# Altium footprint library MLACHQ_S.PCBLIB: 155 footprints (part 10 of 10)
Each footprint in its own frame and in the unit in brackets; x right, y up, seen from the top. Pads: shape width x height; smd on the part's side, far side on the other; paste and mask are expansions set on the pad; w line width, h text height; cw(c..) or ccw(c..) is an arc to the next point about the centre after c.
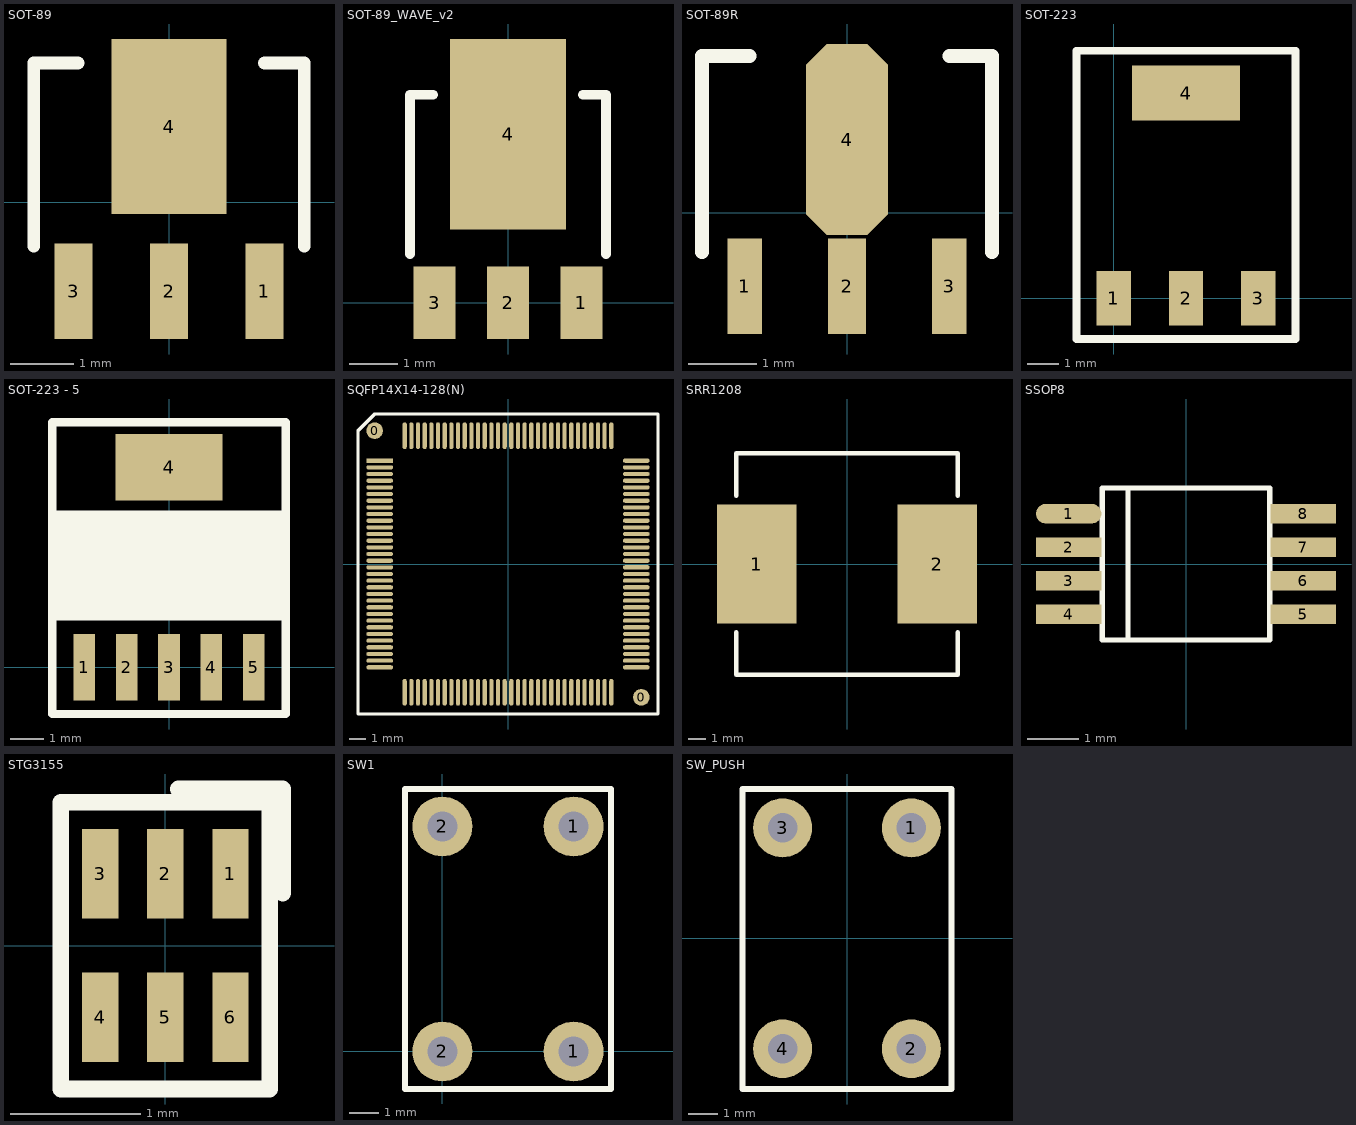
[diagram p9: the footprints below, top view; thin cyan lines are the x and y axes]

## SOT-89 [mm]
pads (4):
  rect 0.6x1.5 smd mask+0.3: 1(1.5,-1.4) 2(0,-1.4) 3(-1.5,-1.4)
  rect 1.8x2.75 smd mask+0.3: 4(0,1.188)
TopOverlay:
  lines w0.203: -2.125,-0.688 -2.125,2.187 -1.431,2.187 ; 1.5,2.187 2.125,2.187 2.125,-0.688
3D body: height 0.4, standoff 0, extent -0.9,1.2 0.9,2
3D body: height 0.4, standoff 0, extent 1.3,-2 1.7,-1.2
3D body: height 0.4, standoff 0, extent -0.2,-2 0.2,-1.2
3D body: height 0.4, standoff 0, extent -1.7,-2 -1.3,-1.2
3D body: height 1.6, standoff 0, extent -2.3,-1.2 2.3,1.2

## SOT-89_WAVE_v2 [mm]
pads (4):
  rect 0.864x1.5 smd: 1(1.524,0) 2(0,0) 3(-1.524,0)
  rect 2.4x3.95 smd mask+0.3: 4(0,3.5)
TopOverlay:
  lines w0.203: -2.032,1.016 -2.032,4.318 -1.55,4.318 ; 1.55,4.318 2.032,4.318 2.032,1.016
3D body: height 1.5, standoff 0.5, extent -2,0.25 2,3.65

## SOT-89R [mm]
pads (4):
  rect 0.5x1.4 smd mask+0.203: 1(-1.5,-1.075) 3(1.5,-1.075)
  rect 0.56x1.4 smd mask+0.203: 2(0,-1.075)
  oct 1.2x2.8 smd mask+0.203: 4(0,1.075)
TopOverlay:
  lines w0.203: -2.125,-0.575 -2.125,2.3 -1.431,2.3 ; 1.5,2.3 2.125,2.3 2.125,-0.575
3D body: height 0.4, standoff 0, extent -0.9,1.55 0.9,2.35
3D body: height 0.4, standoff 0, extent 1.3,-1.65 1.7,-0.85
3D body: height 0.4, standoff 0, extent -0.2,-1.65 0.2,-0.85
3D body: height 0.4, standoff 0, extent -1.7,-1.65 -1.3,-0.85
3D body: height 1.6, standoff 0, extent -2.3,-0.85 2.3,1.55

## SOT-223 [mm]
pads (4):
  rect 1.1x1.75 smd: 1(0,0) 2(2.3,0) 3(4.6,0)
  rect 3.45x1.75 smd: 4(2.3,6.55)
TopOverlay:
  lines w0.25: -1.2,-1.3 -1.2,7.9 5.8,7.9 5.8,-1.3 -1.2,-1.3
3D body: height 1.6, standoff 0, extent -1,1.475 5.6,5.075
3D body: height 0.8, standoff 0, extent 1.9,-0.225 2.7,1.475
3D body: height 0.8, standoff 0, extent -0.4,-0.225 0.4,1.475
3D body: height 0.8, standoff 0, extent 4.2,-0.225 5,1.475
3D body: height 0.8, standoff 0, extent 0.8,5.075 3.8,6.775

## SOT-223 - 5 [mm]
pads (6):
  rect 0.65x2 smd: 1(-2.54,0) 2(-1.27,0) 3(0,0) 4(1.27,0) 5(2.54,0)
  rect 3.2x2 smd: 4(0,6)
TopOverlay:
  rectangle: -3.5,1.4 3.5,4.7
  lines w0.25: -3.5,-1.4 -3.5,7.35 3.5,7.35 3.5,-1.4 -3.5,-1.4
3D body: height 0.8, standoff 0, extent 2.24,-0.225 2.84,1.475
3D body: height 0.8, standoff 0, extent 0.97,-0.225 1.57,1.475
3D body: height 0.8, standoff 0, extent -2.84,-0.225 -2.24,1.475
3D body: height 0.8, standoff 0, extent -1.57,-0.225 -0.97,1.475
3D body: height 1.6, standoff 0, extent -3.3,1.475 3.3,5.075
3D body: height 0.8, standoff 0, extent -0.3,-0.225 0.3,1.475
3D body: height 0.8, standoff 0, extent -1.5,5.075 1.5,6.775

## SQFP14X14-128(N) [mm]
pads (130):
  round 1 smd: 0(-8.012,8.006) 0(7.988,-7.994)
  rect 1.6x0.25 smd: 1(-7.712,6.206)
  oval 1.6x0.25 smd: 2(-7.712,5.806) 3(-7.712,5.406) 4(-7.712,5.006) 5(-7.712,4.606) 6(-7.712,4.206) 7(-7.712,3.806) 8(-7.712,3.406) 9(-7.712,3.006) 10(-7.712,2.606) 11(-7.712,2.206) 12(-7.712,1.806) 13(-7.712,1.406) 14(-7.712,1.006) 15(-7.712,0.606) 16(-7.712,0.206) 17(-7.712,-0.194) 18(-7.712,-0.594) 19(-7.712,-0.994) 20(-7.712,-1.394) 21(-7.712,-1.794) 22(-7.712,-2.194) 23(-7.712,-2.594) 24(-7.712,-2.994) 25(-7.712,-3.394) 26(-7.712,-3.794) 27(-7.712,-4.194) 28(-7.712,-4.594) 29(-7.712,-4.994) 30(-7.712,-5.394) 31(-7.712,-5.794) 32(-7.712,-6.194) 65(7.688,-6.194) 66(7.688,-5.794) 67(7.688,-5.394) 68(7.688,-4.994) 69(7.688,-4.594) 70(7.688,-4.194) 71(7.688,-3.794) 72(7.688,-3.394) 73(7.688,-2.994) 74(7.688,-2.594) 75(7.688,-2.194) 76(7.688,-1.794) 77(7.688,-1.394) 78(7.688,-0.994) 79(7.688,-0.594) 80(7.688,-0.194) 81(7.688,0.206) 82(7.688,0.606) 83(7.688,1.006) 84(7.688,1.406) 85(7.688,1.806) 86(7.688,2.206) 87(7.688,2.606) 88(7.688,3.006) 89(7.688,3.406) 90(7.688,3.806) 91(7.688,4.206) 92(7.688,4.606) 93(7.688,5.006) 94(7.688,5.406) 95(7.688,5.806) 96(7.688,6.206)
  oval 0.25x1.6 smd: 33(-6.212,-7.694) 34(-5.812,-7.694) 35(-5.412,-7.694) 36(-5.012,-7.694) 37(-4.612,-7.694) 38(-4.212,-7.694) 39(-3.812,-7.694) 40(-3.412,-7.694) 41(-3.012,-7.694) 42(-2.612,-7.694) 43(-2.212,-7.694) 44(-1.812,-7.694) 45(-1.412,-7.694) 46(-1.012,-7.694) 47(-0.612,-7.694) 48(-0.212,-7.694) 49(0.188,-7.694) 50(0.588,-7.694) 51(0.988,-7.694) 52(1.388,-7.694) 53(1.788,-7.694) 54(2.188,-7.694) 55(2.588,-7.694) 56(2.988,-7.694) 57(3.388,-7.694) 58(3.788,-7.694) 59(4.188,-7.694) 60(4.588,-7.694) 61(4.988,-7.694) 62(5.388,-7.694) 63(5.788,-7.694) 64(6.188,-7.694) 97(6.188,7.706) 98(5.788,7.706) 99(5.388,7.706) 100(4.988,7.706) 101(4.588,7.706) 102(4.188,7.706) 103(3.788,7.706) 104(3.388,7.706) 105(2.988,7.706) 106(2.588,7.706) 107(2.188,7.706) 108(1.788,7.706) 109(1.388,7.706) 110(0.988,7.706) 111(0.588,7.706) 112(0.188,7.706) 113(-0.212,7.706) 114(-0.612,7.706) 115(-1.012,7.706) 116(-1.412,7.706) 117(-1.812,7.706) 118(-2.212,7.706) 119(-2.612,7.706) 120(-3.012,7.706) 121(-3.412,7.706) 122(-3.812,7.706) 123(-4.212,7.706) 124(-4.612,7.706) 125(-5.012,7.706) 126(-5.412,7.706) 127(-5.812,7.706) 128(-6.212,7.706)
TopOverlay:
  lines w0.2: -9.012,-8.994 -9.012,8.006 -8.012,9.006 8.988,9.006 8.988,-8.994 -9.012,-8.994

## SRR1208 [mm]
pads (2):
  rect 4.65x7 smd: 1(-5.3,0) 2(5.3,0)
TopOverlay:
  lines w0.254: -6.5,-4 -6.5,-6.5 6.5,-6.5 6.5,-4 ; -6.5,4 -6.5,6.5 6.5,6.5 6.5,4
3D body: height 8, standoff 0, extent -6.502,-6.502 6.528,6.477

## SSOP8 [mm]
pads (8):
  oval 1.27x0.381 smd: 1(-2.275,0.975)
  rect 1.27x0.381 smd: 2(-2.275,0.325) 3(-2.275,-0.325) 4(-2.275,-0.975) 5(2.275,-0.975) 6(2.275,-0.325) 7(2.275,0.325) 8(2.275,0.975)
TopOverlay:
  lines w0.102: -1.125,-1.475 -1.125,1.425 ; -1.625,-1.475 -1.625,1.475 1.625,1.475 1.625,-1.475 -1.625,-1.475

## STG3155 [mil]
pads (6):
  rect 11x27 smd: 1(19.68,21.65) 2(0,21.65) 3(-19.68,21.65) 4(-19.68,-21.65) 5(0,-21.65) 6(19.68,-21.65)
TopOverlay:
  lines w5: 3.94,47.24 35.43,47.24 35.43,15.75 ; -31.5,-43.31 31.5,-43.31 31.5,43.31 -31.5,43.31 -31.5,-43.31

## SW1 [mil]
pads (4):
  round 80 hole 40: 1(175,0) 1(175,300) 2(0,0) 2(0,300)
TopOverlay:
  lines w8: -50,-50 -50,350 225,350 225,-50 -50,-50

## SW_PUSH [mil]
pads (4):
  round 80 hole 40: 1(87.5,150) 2(87.5,-150) 3(-87.5,150) 4(-87.5,-150)
TopOverlay:
  lines w8: -141.73,-204.72 -141.73,202.76 141.73,202.76 141.73,-204.72 -141.73,-204.72